# Altium schematic symbol library On_Semiconductor_BD140G.SchLib: 1 symbol
Pins are listed as number, name and electrical type; pins without a type are passive.

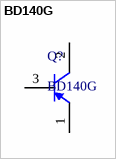
[diagram p0: symbol BD140G]

## BD140G
designator Q?
Plastic Medium-Power Silicon PNP Transistor, 3-Pin TO-225, Pb-Free, Bulk Box; Manufacturer: On Semiconductor; IC Continuous (A): 1.5; Polarity: PNP; ComponentLink1Description: Manufacturer URL; ComponentLink2Description: Datasheet; PartNumber: BD140G; ComponentLink3Description: Package Specification; ComponentLink3URL: http://www.onsemi.com/pub_link/Collateral/77-09.PDF; DatasheetVersion: Rev. 15; ComponentLink1URL: http://www.onsemi.com/; Packing: Bulk Box; PackageVersion: Rev. AC, 12/2013; Mounting Technology: Through Hole; PackageReference: TO-225-3-77-09; PackageDescription: 3-Pin Flange Mount, Vertical Straight Lead, Body 7.6 x 2.7 mm, Pitch 2.29 mm; ComponentLink2URL: http://www.onsemi.com/pub_link/Collateral/BD136-D.PDF; RoHS: TRUE
footprint ONSC-TO-225-3-77-09
pins: 1 E, 2 C, 3 B